# Altium footprint library integrated pcb library phase2.PcbLib: 29 footprints (part 1 of 2)
Each footprint in its own frame and in the unit in brackets; x right, y up, seen from the top. Pads: shape width x height; smd on the part's side, far side on the other; paste and mask are expansions set on the pad; w line width, h text height; cw(c..) or ccw(c..) is an arc to the next point about the centre after c.
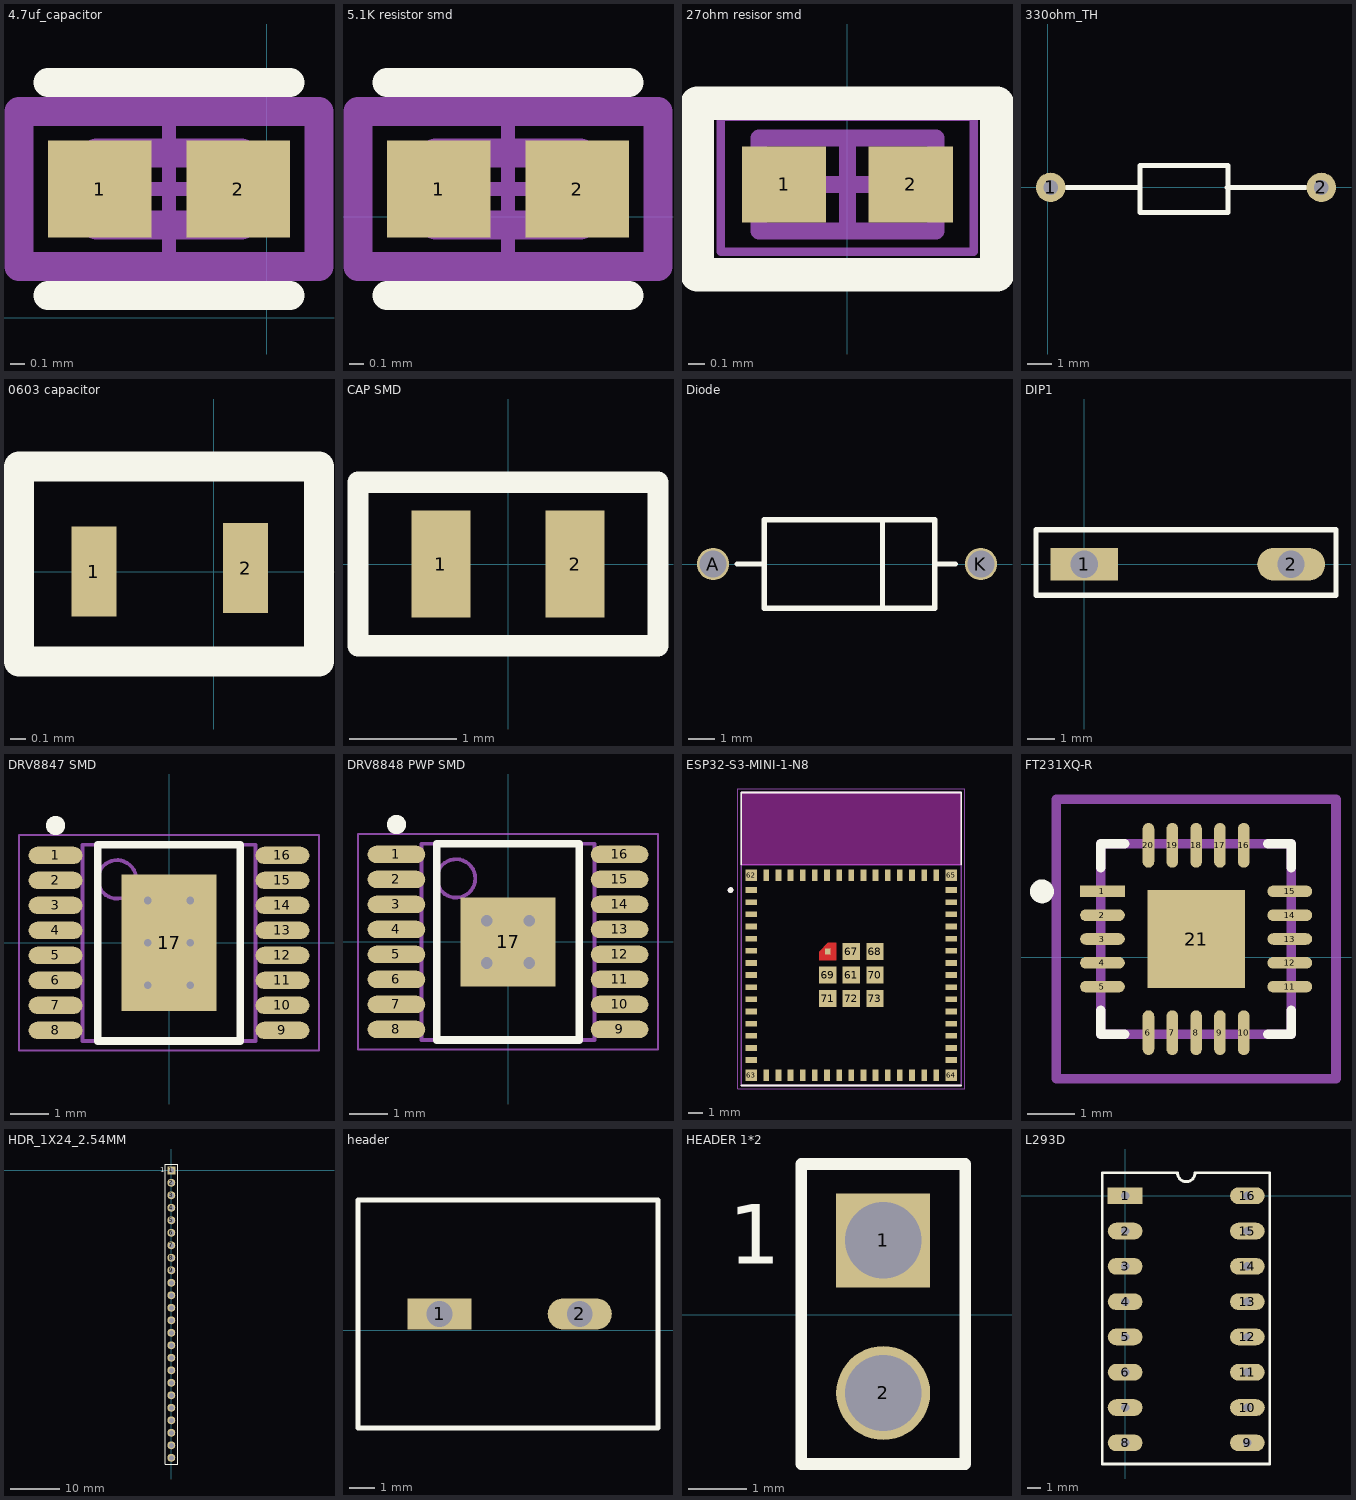
[diagram p0: the footprints below, top view; thin cyan lines are the x and y axes]

## 4.7uf_capacitor [mm]
pads (2):
  rect 0.715x0.672 smd paste+0 mask+0: 1(-1.156,0.891) 2(-0.198,0.891)
Top Overlay:
  lines w0.2: -1.513,0.155 0.159,0.155 ; -1.513,1.627 0.159,1.627
Top 3D Body:
  lines w0.2: -1.177,0.641 -0.177,0.641 -0.177,1.141 -1.177,1.141 -1.177,0.641
Board:
  lines w0.2: -1.713,0.355 0.359,0.355 0.359,1.427 -1.713,1.427 -1.713,0.355
Top Assembly:
  lines w0.2: -1.713,0.355 0.359,0.355 0.359,1.427 -1.713,1.427 -1.713,0.355
  text ".Designator" at -0.677,1.079 h1
Top Component Center:
  lines w0.1: -1.177,0.891 -0.177,0.891 ; -0.677,0.391 -0.677,1.391
3D body "Cap_Samsung_CL05A475MO5NUNC_eec.STEP": height 0.25, standoff 0, extent -1.713,0.355 0.359,1.427

## 5.1K resistor smd [mm]
pads (2):
  rect 0.715x0.672 smd paste+0 mask+0: 1(1.53,0.192) 2(2.488,0.192)
Top Overlay:
  lines w0.2: 1.173,-0.544 2.845,-0.544 ; 1.173,0.928 2.845,0.928
Top 3D Body:
  lines w0.2: 1.509,-0.058 1.509,0.442 2.509,0.442 2.509,-0.058 1.509,-0.058
Board:
  lines w0.2: 0.973,-0.344 0.973,0.728 3.045,0.728 3.045,-0.344 0.973,-0.344
Top Assembly:
  lines w0.2: 0.973,-0.344 0.973,0.728 3.045,0.728 3.045,-0.344 0.973,-0.344
  text ".Designator" at 2.009,0.38 h1
Top Component Center:
  lines w0.1: 1.509,0.192 2.509,0.192 ; 2.009,-0.308 2.009,0.692
3D body "Res_Yageo_AC0402FR-0716R2L_eec.STEP": height 0.25, standoff 0, extent 0.973,-0.344 3.045,0.728

## 27ohm resisor smd [mm]
pads (2):
  rect 0.5x0.45 smd: 1(-0.373,1.043) 2(0.377,1.043)
Top Overlay:
  lines w0.2: -0.889,0.508 0.889,0.508 0.889,1.524 -0.889,1.524 -0.889,0.508
Mechanical 13:
  lines w0.1: -0.523,0.768 0.527,0.768 0.527,1.318 -0.523,1.318 -0.523,0.768
Mechanical 15:
  lines w0.05: -0.748,0.643 0.752,0.643 0.752,1.443 -0.748,1.443 -0.748,0.643
  lines w0.1: -0.273,1.043 0.277,1.043 ; 0.002,0.768 0.002,1.318
3D body: height 0.4, standoff 0, extent 0.277,0.768 0.527,1.318
3D body: height 0.4, standoff 0, extent -0.523,0.768 -0.273,1.318
3D body: height 0.4, standoff 0, extent -0.273,0.768 0.277,1.318

## 330ohm_TH [mm]
pads (2):
  round 1.2 hole 0.6: 1(0.127,0) 2(11.176,0)
Top Overlay:
  lines w0.2: 0.762,0 3.775,0 ; 7.331,0 10.541,0 ; 3.775,0 3.775,-1.016 7.366,-1.016 7.366,0.889 3.775,0.889 3.775,0
3D body "RES_LR1_TYCO_TYC.step": height 2.49, standoff -2.54, extent -0.244,-1.236 11.493,1.236

## 0603 capacitor [mm]
pads (2):
  rect 0.3x0.6 smd: 1(-0.8,0) 2(0.211,0.022)
Top Overlay:
  lines w0.2: -1.3,-0.6 0.7,-0.6 0.7,0.7 -1.3,0.7 -1.3,-0.6
3D body "C0402C102K5REC7867.step": height 0.55, standoff 0, extent -0.825,-0.25 0.225,0.3

## CAP SMD [mm]
pads (2):
  rect 0.55x1 smd: 1(-0.625,0) 2(0.625,0)
Top Overlay:
  lines w0.2: -1.397,-0.762 -1.397,0.762 1.397,0.762 1.397,-0.762 -1.397,-0.762
Mechanical 13:
  text "'.Designator'String" at -3.329,1.249 h0.4
3D body "GRM188R60J226MEA0J[1].step": height 0.81, standoff 0.01, extent -0.8,-0.508 0.8,0.492

## Diode [mm]
pads (2):
  round 1.2 hole 1: A(10.033,0) K(20,0)
Top Overlay:
  lines w0.2: 10.922,0 11.815,0 ; 16.338,-1.651 16.338,1.651 ; 18.288,0 19.05,0 ; 11.938,-1.651 11.938,1.651 18.288,1.651 18.288,-1.651 11.938,-1.651
3D body "1N5817-T[1].step": height 2.68, standoff -21.77, extent 9.512,-1.346 20.46,1.346

## DIP1 [mm]
pads (2):
  rect 2.5x1.2 hole 1: 1(0,0)
  oval 2.5x1.2 hole 1: 2(7.62,0)
Top Overlay:
  lines w0.2: -1.778,-1.143 -1.778,1.27 9.271,1.27 9.271,-1.143 -1.778,-1.143
3D body "CUI_DEVICES_DS01-254-L-01BE.step": height 6.56, standoff -3.79, extent -1.14,-1.928 8.76,2.032

## DRV8847 SMD [mm] "TSOP, 16-Leads, Body 5.00x4.40mm, Pitch 0.65mm, Thermal Pad 3.55x2.46mm, IPC Medium Density"
height 1.2
pads (17):
  oval 1.4x0.45 smd: 1(-2.95,2.275) 2(-2.95,1.625) 3(-2.95,0.975) 4(-2.95,0.325) 5(-2.95,-0.325) 6(-2.95,-0.975) 7(-2.95,-1.625) 8(-2.95,-2.275) 9(2.95,-2.275) 10(2.95,-1.625) 11(2.95,-0.975) 12(2.95,-0.325) 13(2.95,0.325) 14(2.95,0.975) 15(2.95,1.625) 16(2.95,2.275)
  rect 2.46x3.55 smd: 17(0,0)
via -0.55,1.1 diameter 0.5 hole 0.2
via 0.55,1.1 diameter 0.5 hole 0.2
via -0.55,0 diameter 0.5 hole 0.2
via 0.55,0 diameter 0.5 hole 0.2
via -0.55,-1.1 diameter 0.5 hole 0.2
via 0.55,-1.1 diameter 0.5 hole 0.2
Top Overlay:
  circle w0.25: c-2.95,3.05 r0.125
  lines w0.2: -1.85,-2.55 -1.85,2.55 1.85,2.55 1.85,-2.55 -1.85,-2.55
Mechanical 13:
  circle w0.1: c-1.35,1.65 r0.5
  lines w0.1: -2.25,-2.55 -2.25,2.55 2.25,2.55 2.25,-2.55 -2.25,-2.55
  text "'.Designator'String" at -3.456,3.408 h0.4
Mechanical 15:
  lines w0.05: -3.9,-2.8 -3.9,2.8 3.9,2.8 3.9,-2.8 -3.9,-2.8
  lines w0.1: -0.5,0 0.5,0 ; 0,-0.5 0,0.5
3D body "TSOP65P640X120_HS-17N.step": height 1.2, standoff 0, extent -3.2,-2.55 3.2,2.55

## DRV8848 PWP SMD [mm] "TSOP, 16-Leads, Body 5.00x4.40mm, Pitch 0.65mm, Thermal Pad 2.31x2.46mm, IPC Medium Density"
height 1.2
pads (17):
  oval 1.5x0.45 smd: 1(-2.9,2.275) 2(-2.9,1.625) 3(-2.9,0.975) 4(-2.9,0.325) 5(-2.9,-0.325) 6(-2.9,-0.975) 7(-2.9,-1.625) 8(-2.9,-2.275) 9(2.9,-2.275) 10(2.9,-1.625) 11(2.9,-0.975) 12(2.9,-0.325) 13(2.9,0.325) 14(2.9,0.975) 15(2.9,1.625) 16(2.9,2.275)
  rect 2.46x2.31 smd: 17(0,0)
via -0.55,0.55 diameter 0.61 hole 0.305
via 0.55,0.55 diameter 0.61 hole 0.305
via -0.55,-0.55 diameter 0.61 hole 0.305
via 0.55,-0.55 diameter 0.61 hole 0.305
Top Overlay:
  circle w0.25: c-2.9,3.05 r0.125
  lines w0.2: -1.85,-2.55 -1.85,2.55 1.85,2.55 1.85,-2.55 -1.85,-2.55
Mechanical 13:
  circle w0.1: c-1.35,1.65 r0.5
  lines w0.1: -2.25,-2.55 -2.25,2.55 2.25,2.55 2.25,-2.55 -2.25,-2.55
Mechanical 15:
  lines w0.05: -3.9,-2.8 -3.9,2.8 3.9,2.8 3.9,-2.8 -3.9,-2.8
  lines w0.1: -0.5,0 0.5,0 ; 0,-0.5 0,0.5
3D body "DRV8848PWP.step": height 1.2, standoff 0, extent -3.2,-2.55 3.2,2.55

## ESP32-S3-MINI-1-N8 [mm]
pads (73):
  rect 0.8x0.4 smd: 1(39.101,21.444) 2(39.101,20.594) 3(39.101,19.744) 4(39.101,18.894) 5(39.101,18.044) 6(39.101,17.194) 7(39.101,16.344) 8(39.101,15.494) 9(39.101,14.644) 10(39.101,13.794) 11(39.101,12.944) 12(39.101,12.094) 13(39.101,11.244) 14(39.101,10.394) 15(39.101,9.544) 31(53.101,9.544) 32(53.101,10.394) 33(53.101,11.244) 34(53.101,12.094) 35(53.101,12.944) 36(53.101,13.794) 37(53.101,14.644) 38(53.101,15.494) 39(53.101,16.344) 40(53.101,17.194) 41(53.101,18.044) 42(53.101,18.894) 43(53.101,19.744) 44(53.101,20.594) 45(53.101,21.444)
  rect 0.4x0.8 smd: 16(40.151,8.494) 17(41.001,8.494) 18(41.851,8.494) 19(42.701,8.494) 20(43.551,8.494) 21(44.401,8.494) 22(45.251,8.494) 23(46.101,8.494) 24(46.951,8.494) 25(47.801,8.494) 26(48.651,8.494) 27(49.501,8.494) 28(50.351,8.494) 29(51.201,8.494) 30(52.051,8.494) 46(52.051,22.494) 47(51.201,22.494) 48(50.351,22.494) 49(49.501,22.494) 50(48.651,22.494) 51(47.801,22.494) 52(46.951,22.494) 53(46.101,22.494) 54(45.251,22.494) 55(44.401,22.494) 56(43.551,22.494) 57(42.701,22.494) 58(41.851,22.494) 59(41.001,22.494) 60(40.151,22.494)
  rect 1.2x1.2 smd: 61(46.101,15.494) 67(46.101,17.144) 68(47.751,17.144) 69(44.451,15.494) 70(47.751,15.494) 71(44.451,13.844) 72(46.101,13.844) 73(47.751,13.844)
  rect 0.8x0.8 smd: 62(39.101,22.494) 63(39.101,8.494) 64(53.101,8.494) 65(53.101,22.494)
  rect 0.4x0.4 smd paste-1 mask+0: 66(44.451,17.144)
Top Layer:
  region: 45.051,16.544 43.851,16.544 43.851,17.144 44.451,17.744 45.051,17.744
Top Overlay:
  circle w0.2: c37.651,21.444 r0.1
  lines w0.127: 38.401,7.769 53.801,7.769 ; 38.401,23.219 38.401,28.269 53.801,28.269 53.801,23.219
Top Paste:
  region: 45.051,16.544 43.851,16.544 43.851,17.144 44.451,17.744 45.051,17.744
Top Solder:
  region: 45.151,16.444 43.751,16.444 43.751,17.194 44.401,17.844 45.151,17.844
Keep-Out Layer:
  region: 53.801,23.219 38.401,23.219 38.401,28.269 53.801,28.269
  region: 53.801,23.219 38.401,23.219 38.401,28.269 53.801,28.269
Mechanical 13:
  circle w0.2: c37.651,21.444 r0.1
  lines w0.127: 38.401,23.219 38.401,7.769 53.801,7.769 53.801,23.219 ; 38.401,23.219 38.401,28.269 53.801,28.269 53.801,23.219 ; 38.401,23.219 53.801,23.219
Mechanical 15:
  lines w0.05: 38.151,7.519 38.151,28.519 54.051,28.519 54.051,7.519 38.151,7.519
3D body "step_temp.STEP": height 2.55, standoff 0, extent 38.401,7.769 53.801,28.269

## FT231XQ-R [mil]
pads (21):
  rect 37x9.55 smd paste+0 mask+0: 1(194.35,54.49)
  rrect100% 37x9.55 smd paste+0 mask+0: 2(194.35,34.8) 3(194.35,15.12) 4(194.35,-4.57) 5(194.35,-24.25) 11(349.11,-24.25) 12(349.11,-4.57) 13(349.11,15.12) 14(349.11,34.8) 15(349.11,54.49)
  rrect100% 9.55x37 smd paste+0 mask+0: 6(232.36,-62.26) 7(252.05,-62.26) 8(271.73,-62.26) 9(291.42,-62.26) 10(311.1,-62.26) 16(311.1,92.5) 17(291.42,92.5) 18(271.73,92.5) 19(252.05,92.5) 20(232.36,92.5)
  rect 80.71x80.71 smd paste-39370.1 mask+0: 21(271.73,15.12)
Top Overlay:
  circle w9.84: c144.36,54.49 r4.92
  lines w7.87: 192.99,-43.94 192.99,-63.62 212.68,-63.62 ; 192.99,74.17 192.99,93.86 212.68,93.86 ; 330.79,-63.62 350.47,-63.62 350.47,-43.94 ; 330.79,93.86 350.47,93.86 350.47,74.17
Top Paste:
  rectangle: 246.21,-10.4 297.25,40.64
Top 3D Body:
  lines w7.87: 192.99,-63.62 192.99,93.86 350.47,93.86 350.47,-63.62 192.99,-63.62
Board:
  lines w7.87: 156.17,-100.45 156.17,130.68 387.3,130.68 387.3,-100.45 156.17,-100.45
Top Assembly:
  lines w7.87: 156.17,-100.45 156.17,130.68 387.3,130.68 387.3,-100.45 156.17,-100.45
  text ".Designator" at 271.73,22.51 h39.37
Top Component Center:
  lines w3.94: 252.05,15.12 291.42,15.12 ; 271.73,-4.57 271.73,34.8
3D body "IC_FTDI_FT231XQ-R_eec.STEP": height 10, standoff 0, extent 156.17,-100.45 387.3,130.68

## HDR_1X24_2.54MM [mil]
pads (24):
  rect 64x64 hole 40: 1(0,0)
  round 64 hole 40: 2(0,-100) 3(0,-200) 4(0,-300) 5(0,-400) 6(0,-500) 7(0,-600) 8(0,-700) 9(0,-800) 10(0,-900) 11(0,-1000) 12(0,-1100) 13(0,-1200) 14(0,-1300) 15(0,-1400) 16(0,-1500) 17(0,-1600) 18(0,-1700) 19(0,-1800) 20(0,-1900) 21(0,-2000) 22(0,-2100) 23(0,-2200) 24(0,-2300)
Top Overlay:
  lines w7.87: -50,-2350 -50,50 50,50 50,-2350 -50,-2350
  text "1" at -86.39,-16.43 h40
3D body "022284245.stp": height 385.5, standoff -119.5, extent -50,-2350 48,50

## header [mm]
pads (2):
  rect 2.5x1.2 hole 1: 1(4.953,0.635)
  oval 2.5x1.2 hole 1: 2(10.414,0.635)
Top Overlay:
  lines w0.2: 1.778,-3.81 13.462,-3.81 13.462,5.08 3.79,5.08 1.778,5.08 1.778,-3.81
3D body "282837-2.step": height 10, standoff -3.5, extent 2.194,-3.465 12.954,4.735

## HEADER 1*2 [mm]
pads (2):
  rect 1.6x1.6 hole 1.3: 1(8.89,1.27)
  round 1.6 hole 1.3: 2(8.89,-1.33)
Top Overlay:
  lines w0.2: 7.493,-2.54 7.493,2.57 10.287,2.57 10.287,-2.54 7.493,-2.54
  text "1" at 6.26,0.87 h1.02
3D body "61300211121_Download_STP_61300211121_rev1.stp": height 8.16, standoff -3.38, extent 7.62,-2.54 10.16,2.54

## L293D [mm]
pads (16):
  rect 2.5x1.2 hole 0.6: 1(0,0)
  oval 2.5x1.2 hole 0.6: 2(0,-2.54) 3(0,-5.08) 4(0,-7.62) 5(0,-10.16) 6(0,-12.7) 7(0,-15.24) 8(0,-17.78) 9(8.8,-17.78) 10(8.8,-15.24) 11(8.8,-12.7) 12(8.8,-10.16) 13(8.8,-7.62) 14(8.8,-5.08) 15(8.8,-2.54) 16(8.8,0)
Top Overlay:
  lines w0.2: -1.651,-19.304 10.414,-19.304 10.414,1.651 5.035,1.651 cw(c4.4,1.651) 3.765,1.651 -1.651,1.651 -1.651,-19.304
3D body "L293D[1].step": height 5.1, standoff -3.3, extent -0.302,-18.857 8.938,1.143